# Altium footprint library IC_SMD_QUAD.PCBLIB: 135 footprints (part 5 of 9)
Each footprint in its own frame and in the unit in brackets; x right, y up, seen from the top. Pads: shape width x height; smd on the part's side, far side on the other; paste and mask are expansions set on the pad; w line width, h text height; cw(c..) or ccw(c..) is an arc to the next point about the centre after c.
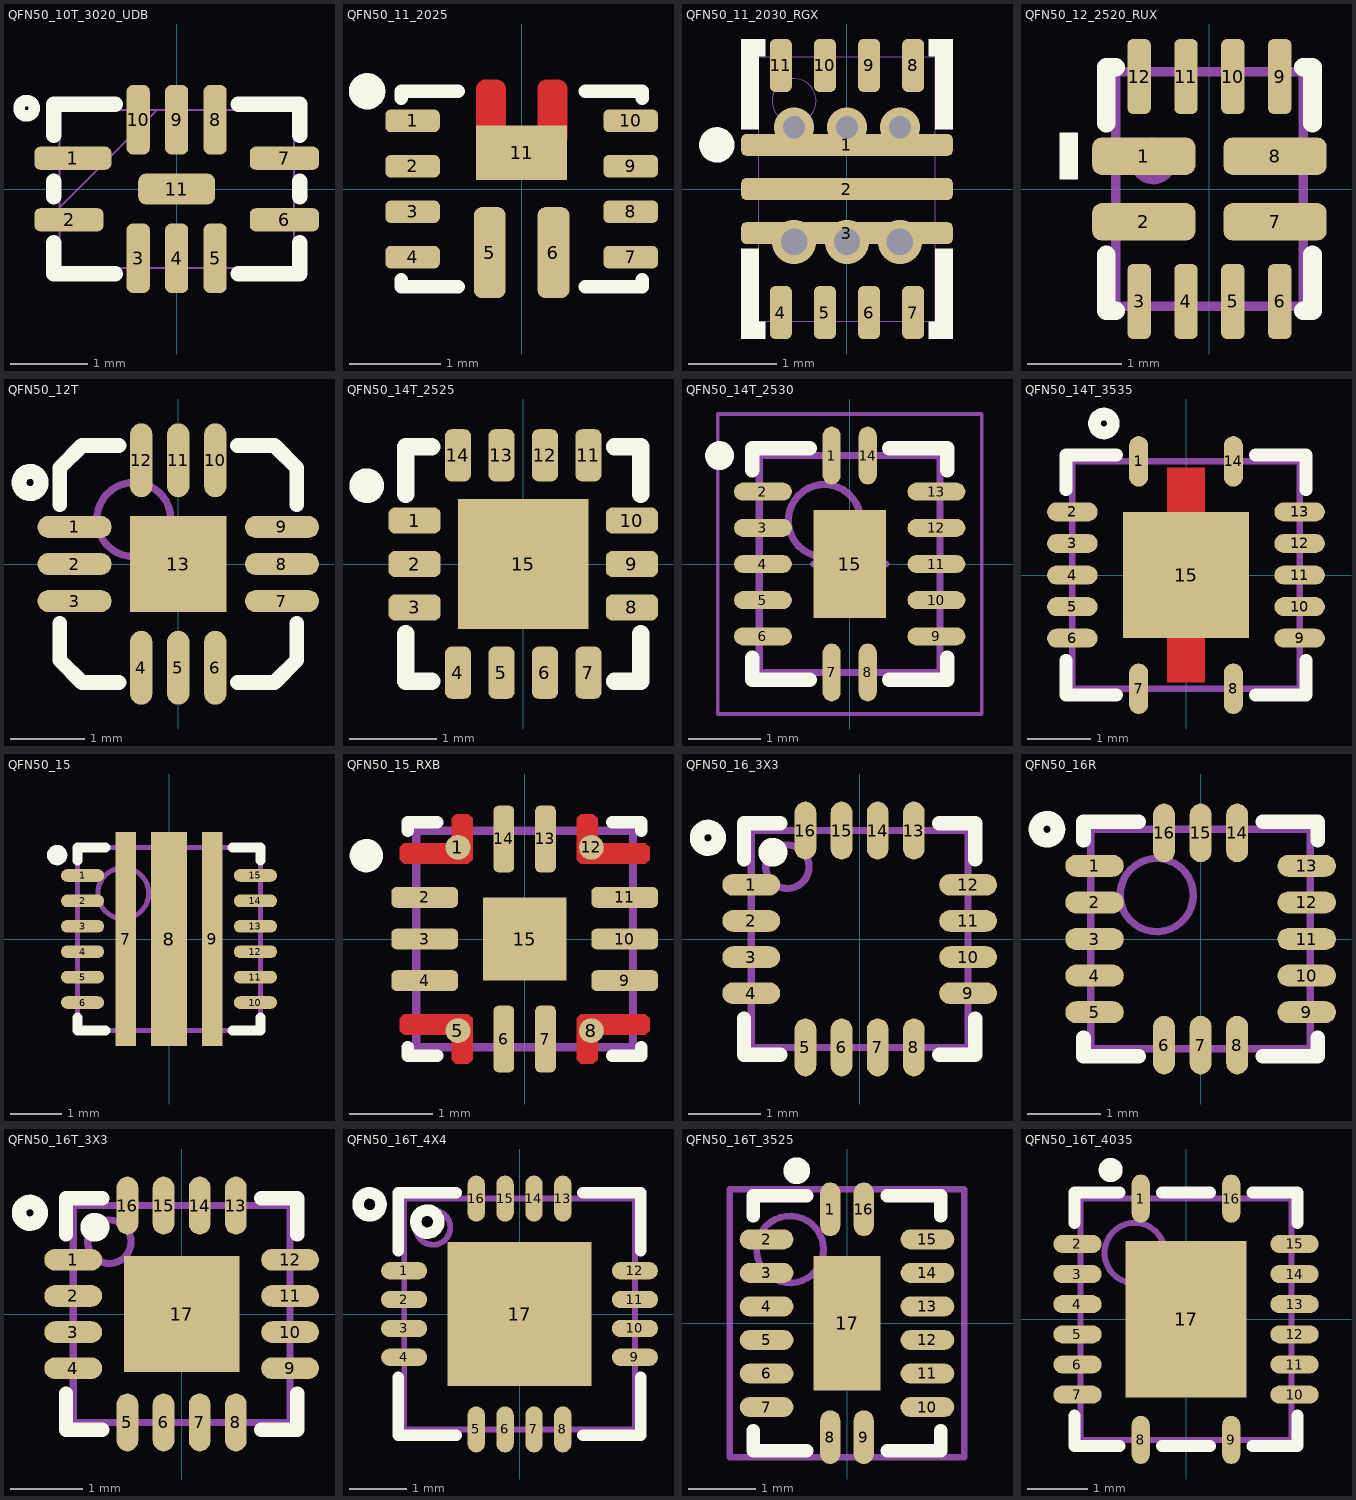
[diagram p4: the footprints below, top view; thin cyan lines are the x and y axes]

## QFN50_10T_3020_UDB [mm] "QFN-10 3x2mm, UDB"
pads (11):
  rrect50% 1x0.3 smd paste-0.025 mask+0.05: 1(-1.35,0.4)
  rrect50% 0.9x0.3 smd paste-0.025 mask+0.05: 2(-1.4,-0.4) 6(1.4,-0.4) 7(1.4,0.4)
  rrect50% 0.3x0.9 smd paste-0.025 mask+0.05: 3(-0.5,-0.9) 4(0,-0.9) 5(0.5,-0.9) 8(0.5,0.9) 9(0,0.9) 10(-0.5,0.9)
  rrect50% 1x0.4 smd paste-0.025 mask+0.05: 11(0,0)
TopOverlay:
  circle w0.15: c-1.95,1.05 r0.1
  lines w0.2: -1.6,-0.7 -1.6,-1.1 -0.8,-1.1 ; -1.6,-0.1 -1.6,0.1 ; -1.6,0.7 -1.6,1.1 -0.8,1.1 ; 0.8,-1.1 1.6,-1.1 1.6,-0.7 ; 0.8,1.1 1.6,1.1 1.6,0.7 ; 1.6,-0.1 1.6,0.1
Mechanical13:
  lines w0.025: -1.524,-0.241 -0.254,1.029 ; -1.524,-1.029 -1.524,1.029 1.524,1.029 1.524,-1.029 -1.524,-1.029
3D body "QFN50_10T_3020--.step": height 0.75, standoff 0, extent -1.501,-1.001 1.501,1.001

## QFN50_11_2025 [mm] "VQFN11, RNR, 2x2.5x1mm, pitch 0.5mm"
height 1
pads (11):
  rrect50% 0.6x0.25 smd mask+0.05: 1(-1.2,0.75) 2(-1.2,0.25) 3(-1.2,-0.25) 4(-1.2,-0.75) 7(1.2,-0.75) 8(1.2,-0.25) 9(1.2,0.25) 10(1.2,0.75)
  rrect50% 0.35x1 smd paste+0 mask+0.05: 5(-0.35,-0.7) 6(0.35,-0.7)
  rect 1x0.6 smd paste-2 mask+0.05: 11(0,0.4)
TopLayer:
  region: -0.175,1.1 -0.175,0.6 0.175,0.6 0.175,1.1 0.175,1.12 0.19,1.157 0.218,1.185 0.255,1.2 0.275,1.2 0.4,1.2 0.42,1.2 0.457,1.185 0.485,1.157 0.5,1.12 0.5,1.1 0.5,0.55 -0.5,0.55 -0.5,1.1 -0.5,1.12 -0.485,1.157 -0.457,1.185 -0.42,1.2 -0.4,1.2 -0.275,1.2 -0.255,1.2 -0.218,1.185 -0.19,1.157 -0.175,1.12
TopOverlay:
  circle w0.2: c-1.7,1.075 r0.1
  lines w0.15: -1.325,-1 -1.325,-1.075 -0.7,-1.075 ; -1.325,1 -1.325,1.075 -0.7,1.075 ; 0.7,-1.075 1.325,-1.075 1.325,-1 ; 0.7,1.075 1.325,1.075 1.325,1
TopPaste:
  rectangle: -0.45,0.15 0.45,0.4
  region: 0.477,-0.421 0.223,-0.421 0.223,-0.979 0.477,-0.979
  region: -0.223,-0.421 -0.477,-0.421 -0.477,-0.979 -0.223,-0.979
TopSolder:
  region: -0.223,0.979 -0.477,0.979 -0.477,0.421 -0.223,0.421
  region: 0.477,0.979 0.223,0.979 0.223,0.421 0.477,0.421
  region: 1.454,0.877 0.896,0.877 0.896,0.623 1.454,0.623
  region: 1.454,0.377 0.896,0.377 0.896,0.123 1.454,0.123
  region: 1.454,-0.123 0.896,-0.123 0.896,-0.377 1.454,-0.377
  region: 1.454,-0.623 0.896,-0.623 0.896,-0.877 1.454,-0.877
  region: 0.477,-0.421 0.223,-0.421 0.223,-0.979 0.477,-0.979
  region: -0.223,-0.421 -0.477,-0.421 -0.477,-0.979 -0.223,-0.979
  region: -0.896,-0.623 -1.454,-0.623 -1.454,-0.877 -0.896,-0.877
  region: -0.896,-0.123 -1.454,-0.123 -1.454,-0.377 -0.896,-0.377
  region: -0.896,0.377 -1.454,0.377 -1.454,0.123 -0.896,0.123
  region: -0.896,0.877 -1.454,0.877 -1.454,0.623 -0.896,0.623
  region: -0.241,0.421 -0.241,0.979 -0.495,0.979 -0.495,0.421
  region: 0.241,0.421 0.241,0.979 0.495,0.979 0.495,0.421
3D body "RNR0011A.stp": height 1, standoff 0, extent -1.25,-1 1.25,1

## QFN50_11_2030_RGX [mm] "QFN-11 RGX, pitch: 0.5mm, 2x3x1mm"
height 1
pads (11):
  rrect50% 2.4x0.25 smd mask+0.05: 1(0,0.5) 2(0,0) 3(0,-0.5)
  rrect50% 0.25x0.6 smd mask+0.05: 4(-0.75,-1.4) 5(-0.25,-1.4) 6(0.25,-1.4) 7(0.75,-1.4) 8(0.75,1.4) 9(0.25,1.4) 10(-0.25,1.4) 11(-0.75,1.4)
via 0,-0.6 diameter 0.5 hole 0.3
via -0.6,-0.6 diameter 0.5 hole 0.3
via 0.6,-0.6 diameter 0.5 hole 0.3
via 0.6,0.7 diameter 0.45 hole 0.25
via -0.6,0.7 diameter 0.45 hole 0.25
via 0,0.7 diameter 0.45 hole 0.25
TopOverlay:
  circle w0.2: c-1.475,0.5 r0.1
  region: 1.2,0.675 1.2,1.7 1,1.7 1,0.675
  rectangle: 0.925,1.5 1.2,1.7
  region: 1,-0.675 1,-1.7 1.2,-1.7 1.2,-0.675
  rectangle: 0.925,-1.7 1.2,-1.5
  region: -1.2,-0.675 -1.2,-1.7 -1,-1.7 -1,-0.675
  region: -0.925,-1.5 -1.2,-1.5 -1.2,-1.7 -0.925,-1.7
  region: -0.925,1.7 -1.2,1.7 -1.2,1.5 -0.925,1.5
  region: -1,0.675 -1,1.7 -1.2,1.7 -1.2,0.675
TopPaste:
  drawing of 9 lines, arcs and shapes, not listed
Mechanical13:
  circle w0.01: c-0.6,1 r0.25
  lines w0.01: -1,-1.5 1,-1.5 1,1.5 -1,1.5 -1,-1.5
3D body "RGX0011A.stp": height 1, standoff 0, extent -1,-1.5 1,1.5

## QFN50_12_2520_RUX [mm] "VQFN-HR RUX0012, pitch: 0.5mm, 0.7mm, 2x2.5x1mm"
height 1
pads (12):
  rrect50% 1.1x0.4 smd mask+0.075: 1(-0.7,0.35) 2(-0.7,-0.35) 7(0.7,-0.35) 8(0.7,0.35)
  rrect50% 0.25x0.8 smd mask+0.075: 3(-0.75,-1.2) 4(-0.25,-1.2) 5(0.25,-1.2) 6(0.75,-1.2) 9(0.75,1.2) 10(0.25,1.2) 11(-0.25,1.2) 12(-0.75,1.2)
TopOverlay:
  region: -1.4,0.1 -1.4,0.6 -1.6,0.6 -1.6,0.1
  lines w0.2: -1.1,-0.7 -1.1,-1.3 -1,-1.3 ; -1.1,0.7 -1.1,1.3 -1,1.3 ; 1,-1.3 1.1,-1.3 1.1,-0.7 ; 1,1.3 1.1,1.3 1.1,0.7
Mechanical13:
  circle w0.1: c-0.6,0.3 r0.2
  lines w0.1: -1,-1.25 1,-1.25 1,1.25 -1,1.25 -1,-1.25
3D body "RUX0012A.stp": height 1, standoff 0, extent -1,-1.25 1,1.25

## QFN50_12T [mm] "LFCSP, CP-12-4, 3X3mm, 0.5mm pitch, MO-220"
height 0.8
pads (13):
  oval 1x0.3 smd mask+0.05: 1(-1.4,0.5) 2(-1.4,0) 3(-1.4,-0.5) 7(1.4,-0.5) 8(1.4,0) 9(1.4,0.5)
  oval 0.3x1 smd mask+0.05: 4(-0.5,-1.4) 5(0,-1.4) 6(0.5,-1.4) 10(0.5,1.4) 11(0,1.4) 12(-0.5,1.4)
  rect 1.3x1.3 smd paste-0.1 mask+0.075: 13(0,0)
TopOverlay:
  circle w0.2: c-2,1.1 r0.15
  lines w0.2: -1.6,-0.8 -1.6,-1.3 -1.3,-1.6 -0.8,-1.6 ; -1.6,0.8 -1.6,1.3 -1.3,1.6 -0.8,1.6 ; 0.8,-1.6 1.3,-1.6 1.6,-1.3 1.6,-0.8 ; 0.8,1.6 1.3,1.6 1.6,1.3 1.6,0.8
Mechanical13:
  circle w0.1: c-0.6,0.6 r0.5
3D body "User Library-LFCSP.STEP": height 0.85, standoff 0, extent -1.525,-1.525 1.525,1.525

## QFN50_14T_2525 [mm] "WQFN-14, 0.5mm pitch, 2.5x2.5mm"
height 0.75
pads (15):
  rrect50% 0.6x0.3 smd mask+0.05: 1(-1.25,0.5) 2(-1.25,0) 3(-1.25,-0.5) 8(1.25,-0.5) 9(1.25,0) 10(1.25,0.5)
  rrect50% 0.3x0.6 smd mask+0.05: 4(-0.75,-1.25) 5(-0.25,-1.25) 6(0.25,-1.25) 7(0.75,-1.25) 11(0.75,1.25) 12(0.25,1.25) 13(-0.25,1.25) 14(-0.75,1.25)
  rect 1.5x1.5 smd paste-2 mask+0.05: 15(0,0)
TopOverlay:
  circle w0.2: c-1.8,0.9 r0.1
  lines w0.2: -1.35,-0.8 -1.35,-1.35 -1.05,-1.35 ; -1.35,0.8 -1.35,1.35 -1.05,1.35 ; 1.05,-1.35 1.35,-1.35 1.35,-0.8 ; 1.05,1.35 1.35,1.35 1.35,0.8
TopPaste:
  region: 0.488,-0.488 -0.488,-0.488 -0.488,0.488 0.488,0.488
3D body "QFN50_14T_252525.step": height 0.75, standoff 0, extent -1.251,-1.251 1.251,1.251

## QFN50_14T_2530 [mm] "DHVQFN14, BQA, WQFN-14, 0.5mm pitch, 2.5x3x0.85mm"
height 1
pads (15):
  oval 0.25x0.8 smd mask+0.075: 1(-0.25,1.5) 7(-0.25,-1.5) 8(0.25,-1.5) 14(0.25,1.5)
  oval 0.8x0.25 smd mask+0.075: 2(-1.2,1) 3(-1.2,0.5) 4(-1.2,0) 5(-1.2,-0.5) 6(-1.2,-1) 9(1.2,-1) 10(1.2,-0.5) 11(1.2,0) 12(1.2,0.5) 13(1.2,1)
  rect 1x1.5 smd paste-3: 15(0,0)
TopOverlay:
  circle w0.2: c-1.8,1.5 r0.1
  lines w0.2: -1.35,-1.3 -1.35,-1.6 -0.55,-1.6 ; -1.35,1.3 -1.35,1.6 -0.55,1.6 ; 0.55,-1.6 1.35,-1.6 1.35,-1.3 ; 0.55,1.6 1.35,1.6 1.35,1.3
TopPaste:
  region: 0.4,-0.4 0.4,0.4 -0.4,0.4 -0.4,-0.4
Mechanical13:
  circle w0.1: c-0.35,0.6 r0.5
  lines w0.1: -1.25,-1.5 -1.25,1.5 1.25,1.5 1.25,-1.5 -1.25,-1.5
Mechanical15:
  lines w0.05: -1.825,-2.075 -1.825,2.075 1.825,2.075 1.825,-2.075 -1.825,-2.075
  lines w0.1: -0.5,0 0.5,0 ; 0,-0.5 0,0.5
3D body "QFN50_14T_2531.step": height 1, standoff 0, extent -1.251,-1.501 1.251,1.501

## QFN50_14T_3535 [mm] "S-PVQFN-N14 RGY, 3.5X3.5mm, pitch: 0.5mm, 5+2+5+2"
pads (15):
  oval 0.3x0.8 smd mask+0.05: 1(-0.75,1.8) 7(-0.75,-1.8) 8(0.75,-1.8) 14(0.75,1.8)
  oval 0.8x0.3 smd mask+0.05: 2(-1.8,1) 3(-1.8,0.5) 4(-1.8,0) 5(-1.8,-0.5) 6(-1.8,-1) 9(1.8,-1) 10(1.8,-0.5) 11(1.8,0) 12(1.8,0.5) 13(1.8,1)
  rect 2x2 smd paste-2 mask+0.05: 15(0,0)
TopLayer:
  rectangle: -0.3,-1.7 0.3,1.7
TopOverlay:
  circle w0.2: c-1.3,2.4 r0.15
  lines w0.2: -1.9,-1.35 -1.9,-1.9 -1.1,-1.9 ; -1.9,1.35 -1.9,1.9 -1.1,1.9 ; 1.1,-1.9 1.9,-1.9 1.9,-1.35 ; 1.1,1.9 1.9,1.9 1.9,1.35
TopPaste:
  rectangle: -0.9,0.1 -0.1,0.9
  region: 0.9,0.9 0.1,0.9 0.1,0.1 0.9,0.1
  region: 0.9,-0.1 0.1,-0.1 0.1,-0.9 0.9,-0.9
  rectangle: -0.9,-0.9 -0.1,-0.1
Mechanical13:
  lines w0.1: -1.8,-1.8 1.8,-1.8 1.8,1.8 -1.8,1.8 -1.8,-1.8
3D body: height 1, standoff 0, extent -1.8,-1.8 1.8,1.8

## QFN50_15 [mm] "RUW, PVQFN-N15, 3.5x3.5x1mm"
pads (15):
  oval 0.85x0.25 smd mask+0.075: 1(-1.7,1.25) 2(-1.7,0.75) 3(-1.7,0.25) 4(-1.7,-0.25) 5(-1.7,-0.75) 6(-1.7,-1.25) 10(1.7,-1.25) 11(1.7,-0.75) 12(1.7,-0.25) 13(1.7,0.25) 14(1.7,0.75) 15(1.7,1.25)
  rect 0.4x4.2 smd paste-1.8 mask+0.075: 7(-0.85,0) 9(0.85,0)
  rect 0.7x4.2 smd paste-1.8 mask+0.075: 8(0,0)
TopOverlay:
  circle w0.2: c-2.2,1.65 r0.1
  lines w0.2: -1.8,-1.55 -1.8,-1.8 -1.25,-1.8 ; -1.8,1.55 -1.8,1.8 -1.25,1.8 ; 1.25,-1.8 1.8,-1.8 1.8,-1.55 ; 1.25,1.8 1.8,1.8 1.8,1.55
TopPaste:
  rectangle: -1.05,1.3 -0.65,2.1
  rectangle: -1.05,-2.1 -0.65,-1.3
  rectangle: -1.05,0.2 -0.65,1
  rectangle: -1.05,-1 -0.65,-0.2
  region: 1.05,-0.2 0.65,-0.2 0.65,-1 1.05,-1
  region: 1.05,1 0.65,1 0.65,0.2 1.05,0.2
  region: 1.05,-1.3 0.65,-1.3 0.65,-2.1 1.05,-2.1
  region: 1.05,2.1 0.65,2.1 0.65,1.3 1.05,1.3
  rectangle: -0.3,-1 0.3,-0.2
  rectangle: -0.3,0.2 0.3,1
  rectangle: -0.3,-2.1 0.3,-1.3
  rectangle: -0.3,1.3 0.3,2.1
Mechanical13:
  circle w0.1: c-0.9,0.9 r0.5
  lines w0.1: -1.8,-1.8 -1.8,1.8 1.8,1.8 1.8,-1.8 -1.8,-1.8
3D body "QFN50_155.step": height 1.03, standoff 0.02, extent -1.801,-1.8 1.801,1.8

## QFN50_15_RXB [mm] "VQFN-FCRLF RXB, 2.6X2.6X1mm"
height 1
pads (15):
  round 0.3 smd paste-1 mask+0: 1(-0.8,1.1) 5(-0.8,-1.1) 8(0.8,-1.1) 12(0.8,1.1)
  rrect50% 0.8x0.25 smd paste+0 mask+0.05: 2(-1.2,0.5) 3(-1.2,0) 4(-1.2,-0.5) 9(1.2,-0.5) 10(1.2,0) 11(1.2,0.5)
  rrect50% 0.25x0.8 smd paste+0 mask+0.05: 6(-0.25,-1.2) 7(0.25,-1.2) 13(0.25,1.2) 14(-0.25,1.2)
  rect 1x1 smd paste-0.1 mask+0.05: 15(0,0)
TopLayer:
  region: 1.45,-0.9 1.5,-0.95 1.5,-1.1 1.45,-1.15 0.925,-1.15 0.875,-1.2 0.875,-1.45 0.825,-1.5 0.675,-1.5 0.625,-1.45 0.625,-0.95 0.675,-0.9
  region: -1.45,-0.9 -1.5,-0.95 -1.5,-1.1 -1.45,-1.15 -0.925,-1.15 -0.875,-1.2 -0.875,-1.45 -0.825,-1.5 -0.675,-1.5 -0.625,-1.45 -0.625,-0.95 -0.675,-0.9
  region: 1.45,0.9 1.5,0.95 1.5,1.1 1.45,1.15 0.925,1.15 0.875,1.2 0.875,1.45 0.825,1.5 0.675,1.5 0.625,1.45 0.625,0.95 0.675,0.9
  region: -1.45,0.9 -1.5,0.95 -1.5,1.1 -1.45,1.15 -0.925,1.15 -0.875,1.2 -0.875,1.45 -0.825,1.5 -0.675,1.5 -0.625,1.45 -0.625,0.95 -0.675,0.9
TopOverlay:
  circle w0.2: c-1.9,1 r0.1
  lines w0.15: -1.4,-1.3 -1.4,-1.4 -1.05,-1.4 ; -1.4,1.3 -1.4,1.4 -1.05,1.4 ; 1.05,-1.4 1.4,-1.4 1.4,-1.3 ; 1.05,1.4 1.4,1.4 1.4,1.3
TopSolder:
  region: 1.45,-0.9 1.5,-0.95 1.5,-1.1 1.45,-1.15 0.925,-1.15 0.875,-1.2 0.875,-1.45 0.825,-1.5 0.675,-1.5 0.625,-1.45 0.625,-0.95 0.675,-0.9
  region: -1.5,-1.1 -1.5,-0.95 -1.45,-0.9 -0.675,-0.9 -0.625,-0.95 -0.625,-1.45 -0.675,-1.5 -0.825,-1.5 -0.875,-1.45 -0.875,-1.2 -0.925,-1.15 -1.45,-1.15
  region: 1.5,1.1 1.5,0.95 1.45,0.9 0.675,0.9 0.625,0.95 0.625,1.45 0.675,1.5 0.825,1.5 0.875,1.45 0.875,1.2 0.925,1.15 1.45,1.15
  region: -1.45,0.9 -1.5,0.95 -1.5,1.1 -1.45,1.15 -0.925,1.15 -0.875,1.2 -0.875,1.45 -0.825,1.5 -0.675,1.5 -0.625,1.45 -0.625,0.95 -0.675,0.9
Mechanical13:
  lines w0.1: -1.3,-1.3 -1.3,1.3 1.3,1.3 1.3,-1.3 -1.3,-1.3

## QFN50_16_3X3 [mm] "LPCC, RGT, 16-lead, pitch: 0.5mm, 3x3mm"
height 1
pads (16):
  oval 0.8x0.3 smd mask+0.075: 1(-1.5,0.75) 2(-1.5,0.25) 3(-1.5,-0.25) 4(-1.5,-0.75) 9(1.5,-0.75) 10(1.5,-0.25) 11(1.5,0.25) 12(1.5,0.75)
  oval 0.3x0.8 smd mask+0.075: 5(-0.75,-1.5) 6(-0.25,-1.5) 7(0.25,-1.5) 8(0.75,-1.5) 13(0.75,1.5) 14(0.25,1.5) 15(-0.25,1.5) 16(-0.75,1.5)
TopOverlay:
  circle w0.2: c-1.2,1.2 r0.1
  circle w0.2: c-2.1,1.4 r0.15
  lines w0.2: -1.6,-1.1 -1.6,-1.6 -1.1,-1.6 ; -1.6,1.1 -1.6,1.6 -1.1,1.6 ; 1.1,-1.6 1.6,-1.6 1.6,-1.1 ; 1.1,1.6 1.6,1.6 1.6,1.1
Mechanical13:
  circle w0.1: c-1,1 r0.3
  lines w0.1: -1.5,-1.5 1.5,-1.5 1.5,1.5 -1.5,1.5 -1.5,-1.5
3D body: height 1, standoff 0, extent -1.5,-1.5 1.5,1.5

## QFN50_16R [mm] "TFLGA 3x3x1, 5+3+5+3, 3X3mm, 0.5mm pitch"
height 1
pads (16):
  oval 0.8x0.3 smd mask+0.075: 1(-1.45,1) 2(-1.45,0.5) 3(-1.45,0) 4(-1.45,-0.5) 5(-1.45,-1) 9(1.45,-1) 10(1.45,-0.5) 11(1.45,0) 12(1.45,0.5) 13(1.45,1)
  oval 0.3x0.8 smd mask+0.075: 6(-0.5,-1.45) 7(0,-1.45) 8(0.5,-1.45) 14(0.5,1.45) 15(0,1.45) 16(-0.5,1.45)
TopOverlay:
  circle w0.2: c-2.1,1.5 r0.15
  lines w0.2: -1.6,-1.35 -1.6,-1.6 -0.85,-1.6 ; -1.6,1.35 -1.6,1.6 -0.85,1.6 ; 0.85,-1.6 1.6,-1.6 1.6,-1.35 ; 0.85,1.6 1.6,1.6 1.6,1.35
Mechanical13:
  circle w0.1: c-0.6,0.6 r0.5
  lines w0.1: -1.5,-1.5 -1.5,1.5 1.5,1.5 1.5,-1.5 -1.5,-1.5
3D body: height 1, standoff 0, extent -1.5,-1.5 1.5,1.5

## QFN50_16T_3X3 [mm] "RGT PVQFN, LFCSP CP-16-22, 16-lead, pitch: 0.5mm, 3x3mm"
height 1
pads (17):
  oval 0.8x0.3 smd mask+0.075: 1(-1.5,0.75) 2(-1.5,0.25) 3(-1.5,-0.25) 4(-1.5,-0.75) 9(1.5,-0.75) 10(1.5,-0.25) 11(1.5,0.25) 12(1.5,0.75)
  oval 0.3x0.8 smd mask+0.075: 5(-0.75,-1.5) 6(-0.25,-1.5) 7(0.25,-1.5) 8(0.75,-1.5) 13(0.75,1.5) 14(0.25,1.5) 15(-0.25,1.5) 16(-0.75,1.5)
  rect 1.6x1.6 smd paste-3 mask+0.1: 17(0,0)
TopOverlay:
  circle w0.2: c-2.1,1.4 r0.15
  circle w0.2: c-1.2,1.2 r0.1
  lines w0.2: -1.6,-1.1 -1.6,-1.6 -1.1,-1.6 ; -1.6,1.1 -1.6,1.6 -1.1,1.6 ; 1.1,-1.6 1.6,-1.6 1.6,-1.1 ; 1.1,1.6 1.6,1.6 1.6,1.1
TopPaste:
  rectangle: -0.7,-0.7 -0.1,-0.1
  region: 0.7,-0.1 0.1,-0.1 0.1,-0.7 0.7,-0.7
  region: 0.7,0.7 0.1,0.7 0.1,0.1 0.7,0.1
  rectangle: -0.7,0.1 -0.1,0.7
Mechanical13:
  circle w0.1: c-1,1 r0.3
  lines w0.1: -1.5,-1.5 -1.5,1.5 1.5,1.5 1.5,-1.5 -1.5,-1.5
3D body "RGT0016C.stp": height 1, standoff 0, extent -1.5,-1.5 1.5,1.5

## QFN50_16T_4X4 [mm] "QFN, 16, 4X4mm, 0.5mm"
height 1
pads (17):
  oval 0.8x0.3 smd mask+0.075: 1(-2,0.75) 2(-2,0.25) 3(-2,-0.25) 4(-2,-0.75) 9(2,-0.75) 10(2,-0.25) 11(2,0.25) 12(2,0.75)
  oval 0.3x0.8 smd mask+0.075: 5(-0.75,-2) 6(-0.25,-2) 7(0.25,-2) 8(0.75,-2) 13(0.75,2) 14(0.25,2) 15(-0.25,2) 16(-0.75,2)
  rect 2.5x2.5 smd paste-3 mask+0.1: 17(0,0)
TopOverlay:
  circle w0.2: c-2.6,1.9 r0.2
  circle w0.2: c-1.6,1.6 r0.2
  lines w0.2: -2.1,-1.1 -2.1,-2.1 -1.1,-2.1 ; -2.1,1.1 -2.1,2.1 -1.1,2.1 ; 1.1,-2.1 2.1,-2.1 2.1,-1.1 ; 1.1,2.1 2.1,2.1 2.1,1.1
TopPaste:
  rectangle: -1.1,0.2 -0.2,1.1
  region: 1.1,1.1 0.2,1.1 0.2,0.2 1.1,0.2
  region: 1.1,-0.2 0.2,-0.2 0.2,-1.1 1.1,-1.1
  rectangle: -1.1,-1.1 -0.2,-0.2
Mechanical13:
  circle w0.1: c-1.5,1.5 r0.3
  lines w0.1: -2,-2 2,-2 2,2 -2,2 -2,-2
3D body: height 1, standoff 0, extent -2,-2 2,2

## QFN50_16T_3525 [mm] "VQFN-16 RGY 3.5X2.5mm, 0.5mm pitch"
height 1
pads (17):
  oval 0.3x0.8 smd mask+0.05: 1(-0.25,1.7) 8(-0.25,-1.7) 9(0.25,-1.7) 16(0.25,1.7)
  oval 0.8x0.3 smd mask+0.05: 2(-1.2,1.25) 3(-1.2,0.75) 4(-1.2,0.25) 5(-1.2,-0.25) 6(-1.2,-0.75) 7(-1.2,-1.25) 10(1.2,-1.25) 11(1.2,-0.75) 12(1.2,-0.25) 13(1.2,0.25) 14(1.2,0.75) 15(1.2,1.25)
  rect 1x2 smd paste-0.1: 17(0,0)
TopOverlay:
  circle w0.2: c-0.75,2.275 r0.1
  lines w0.2: -1.4,-1.6 -1.4,-1.9 -0.6,-1.9 ; -1.4,1.6 -1.4,1.9 -0.6,1.9 ; 0.6,-1.9 1.4,-1.9 1.4,-1.6 ; 0.6,1.9 1.4,1.9 1.4,1.6
Mechanical13:
  circle w0.1: c-0.85,1.1 r0.5
  lines w0.1: -1.75,-2 -1.75,2 1.75,2 1.75,-2 -1.75,-2
3D body "User Library-User Library-DHVQFN 16.step": height 1, standoff -0.05, extent -1.31,-1.81 1.31,1.81

## QFN50_16T_4035 [mm] "VQFN-16 RGY 4X3.5mm, 0.5mm pitch"
height 1
pads (17):
  oval 0.3x0.8 smd mask+0.05: 1(-0.75,2) 8(-0.75,-2) 9(0.75,-2) 16(0.75,2)
  oval 0.8x0.3 smd mask+0.05: 2(-1.8,1.25) 3(-1.8,0.75) 4(-1.8,0.25) 5(-1.8,-0.25) 6(-1.8,-0.75) 7(-1.8,-1.25) 10(1.8,-1.25) 11(1.8,-0.75) 12(1.8,-0.25) 13(1.8,0.25) 14(1.8,0.75) 15(1.8,1.25)
  rect 2x2.6 smd paste-3: 17(0,0)
TopOverlay:
  circle w0.2: c-1.25,2.475 r0.1
  lines w0.2: -1.85,-1.6 -1.85,-2.1 -1.1,-2.1 ; -1.85,1.6 -1.85,2.1 -1.1,2.1 ; -0.4,-2.1 0.4,-2.1 ; -0.4,2.1 0.4,2.1 ; 1.1,-2.1 1.85,-2.1 1.85,-1.6 ; 1.1,2.1 1.85,2.1 1.85,1.6
TopPaste:
  rectangle: -0.9,-1.2 -0.2,-0.2
  region: 0.9,-0.2 0.2,-0.2 0.2,-1.2 0.9,-1.2
  region: 0.9,1.2 0.2,1.2 0.2,0.2 0.9,0.2
  rectangle: -0.9,0.2 -0.2,1.2
Mechanical13:
  circle w0.1: c-0.85,1.1 r0.5
  lines w0.1: -1.75,-2 -1.75,2 1.75,2 1.75,-2 -1.75,-2
3D body "QFN50_16T_400X350.step": height 1, standoff 0, extent -1.751,-2.001 1.751,2.001